# EAGLE library part ACPL-064L/K64L (library psas_c3_team05)
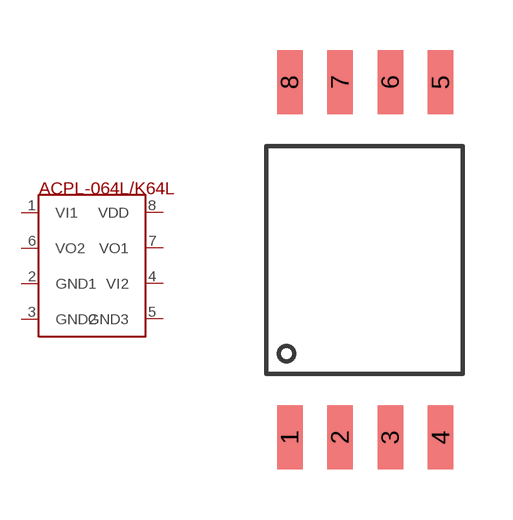
[diagram p16: symbol with the pads of ACPL-064L/K64L; footprint ACPL-064L/K64L]

Designator prefix -

## ACPL-064L/K64L  [ACPL-064L/K64L]
1  VI1  in
2  GND1
3  GND2
4  VI2  in
5  GND3
6  VO2  out
7  VO1  out
8  VDD

## Footprint ACPL-064L/K64L (pad centres in mm)
smd 0.76 x 1.905: 1 1,-11.697; 2 2.5,-11.697; 3 4,-11.697; 4 5.5,-11.697; 5 5.5,-1.097; 6 4,-1.097; 7 2.5,-1.097; 8 1,-1.097